# Altium footprint library mcp2515.PcbLib: 1 footprints
Each footprint in its own frame and in the unit in brackets; x right, y up, seen from the top. Pads: shape width x height; smd on the part's side, far side on the other; paste and mask are expansions set on the pad; w line width, h text height; cw(c..) or ccw(c..) is an arc to the next point about the centre after c.
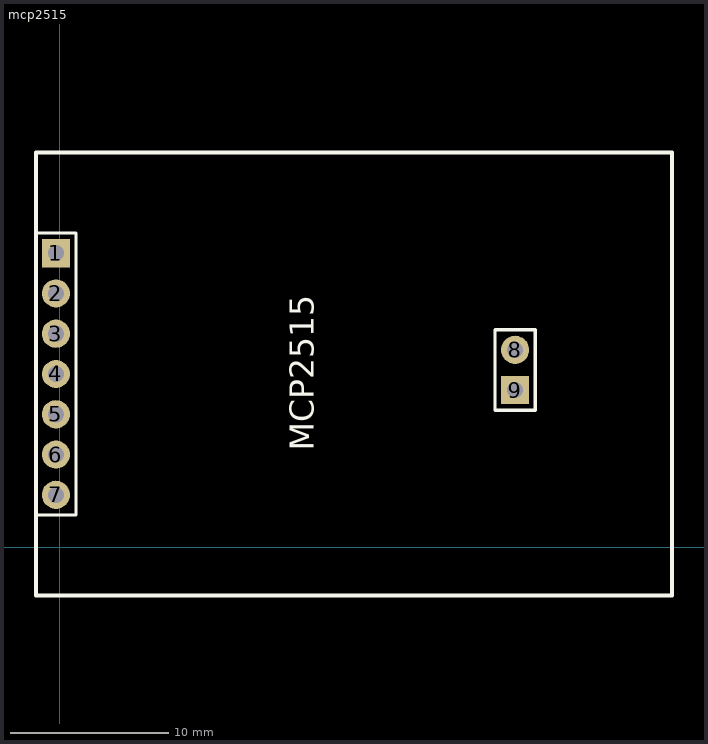
[diagram p0: the footprint, top view; thin cyan lines are the x and y axes]

## mcp2515 [mil]
pads (9):
  rect 70x70 hole 40: 1(-10,730) 9(1130,390)
  round 70 hole 40: 2(-10,630) 3(-10,530) 4(-10,430) 5(-10,330) 6(-10,230) 7(-10,130) 8(1130,490)
Top Overlay:
  lines w7.87: -60,80 40,80 40,780 -60,780 -60,80 ; 1080,340 1180,340 1180,540 1080,540 1080,340
  lines w10: -60,-120 1520,-120 1520,980 -60,980 -60,-120
  text "MCP2515" at 630,240 h60
3D body "MCP2515 CAN_SPI.stp": height 530.11, standoff -1.39, extent -60,-121.18 1519.63,981.18